# EAGLE library part 612050235221 (library Wire-to-Board (rev18a))
WR-BHD 2.54mm Male Angled Box Header High Temperature, 50 Pins=>Code : Con_WTB_BHD_2.54_Male_THT_RS_612050235221 <http://katalog.we-online.de/media/thumbs2/eican/thb_Con_WTB_BHD_2.54_Male_THT_RS_6120xx235221_pf2.jpg> Details see: http://katalog.we-online.de/en/em/612_0xx_235_221 Created 2014-06-05, Karrer Zheng 2014 (C) Würth Elektronik
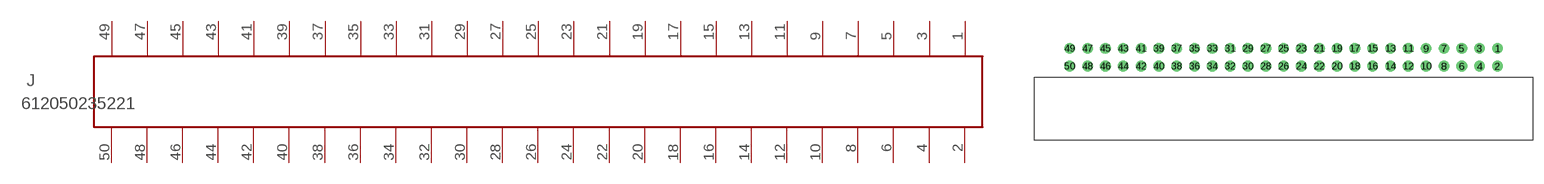
[diagram p201: symbol with the pads of 612050235221; footprint 612050235221]

Designator prefix J

## 612050235221  [612050235221]
1  50  pas
2  49  pas
3  48  pas
4  47  pas
5  46  pas
6  45  pas
7  44  pas
8  43  pas
9  42  pas
10  41  pas
11  40  pas
12  39  pas
13  38  pas
14  37  pas
15  36  pas
16  35  pas
17  34  pas
18  33  pas
19  32  pas
20  31  pas
21  30  pas
22  29  pas
23  28  pas
24  27  pas
25  26  pas
26  25  pas
27  24  pas
28  23  pas
29  22  pas
30  21  pas
31  20  pas
32  19  pas
33  18  pas
34  17  pas
35  16  pas
36  15  pas
37  14  pas
38  13  pas
39  12  pas
40  11  pas
41  10  pas
42  9  pas
43  8  pas
44  7  pas
45  6  pas
46  5  pas
47  4  pas
48  3  pas
49  2  pas
50  1  pas

## Footprint 612050235221 (pad centres in mm)
WR-BHD 2.54mm Male Angled Box Header High Temperature, 50 Pins
drill 1.02: 1 30.48,1.27; 2 30.48,-1.27; 3 27.94,1.27; 4 27.94,-1.27; 5 25.4,1.27; 6 25.4,-1.27; 7 22.86,1.27; 8 22.86,-1.27; 9 20.32,1.27; 10 20.32,-1.27; 11 17.78,1.27; 12 17.78,-1.27; 13 15.24,1.27; 14 15.24,-1.27; 15 12.7,1.27; 16 12.7,-1.27; 17 10.16,1.27; 18 10.16,-1.27; 19 7.62,1.27; 20 7.62,-1.27; 21 5.08,1.27; 22 5.08,-1.27; 23 2.54,1.27; 24 2.54,-1.27; 25 0,1.27; 26 0,-1.27; 27 -2.54,1.27; 28 -2.54,-1.27; 29 -5.08,1.27; 30 -5.08,-1.27; 31 -7.62,1.27; 32 -7.62,-1.27; 33 -10.16,1.27; 34 -10.16,-1.27; 35 -12.7,1.27; 36 -12.7,-1.27; 37 -15.24,1.27; 38 -15.24,-1.27; 39 -17.78,1.27; 40 -17.78,-1.27; 41 -20.32,1.27; 42 -20.32,-1.27; 43 -22.86,1.27; 44 -22.86,-1.27; 45 -25.4,1.27; 46 -25.4,-1.27; 47 -27.94,1.27; 48 -27.94,-1.27; 49 -30.48,1.27; 50 -30.48,-1.27